# EAGLE library part LTC3417A (library PowerProducts)
Dual Synchronous 1.5A/1A 4MHz Step-Down DC/DC Regulator
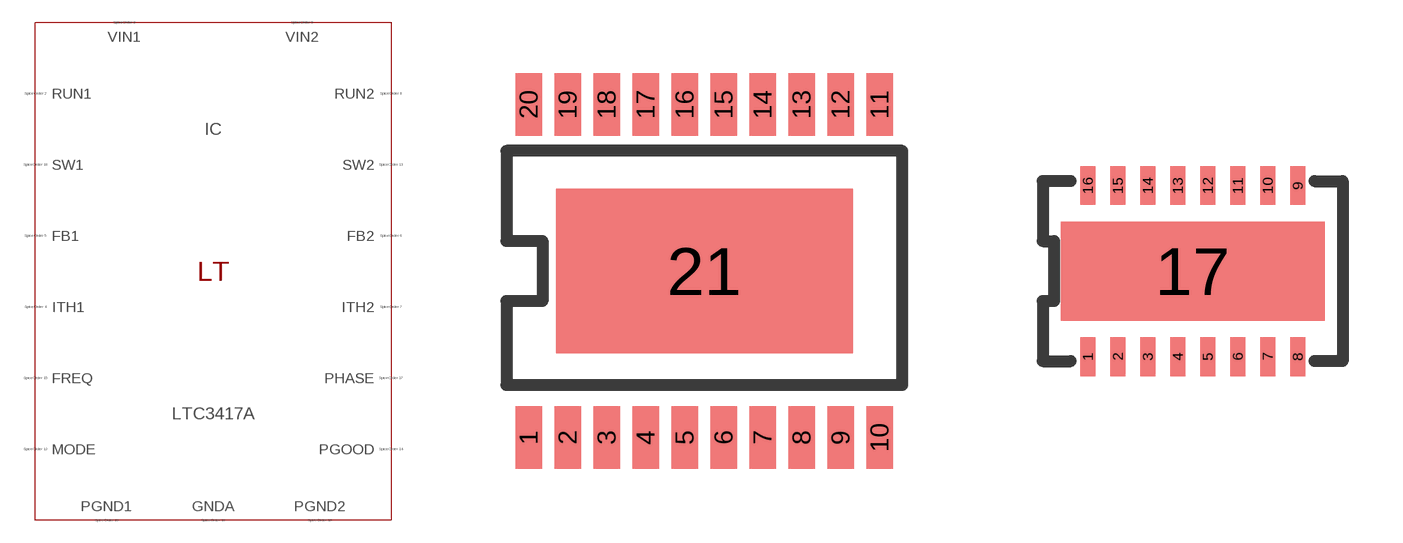
[diagram p179: symbol with the pads of TSSOP20CA(FE); footprints TSSOP20CA(FE), DFN16(DHC)]

Designator prefix IC

## LTC3417AFE (SPICEMODEL: LTC3417A.sub; SPICEPREFIX: X; VALUE2: LTC3417A)  [TSSOP20CA(FE)]
1  PGND2  pas
2  RUN1  pas
3  VIN1  pas
4  ITH1  pas
5  FB1  pas
6  FB2  pas
7  ITH2  pas
8  RUN2  pas
9  VIN2  pas
10  PGND2  pas
11  PGND2  pas
12  MODE  pas
13  SW2  pas
14  PGOOD  pas
15  FREQ  pas
16  GNDA  pas
17  PHASE  pas
18  SW1  pas
19  PGND1  pas
20  PGND2  pas
21  PGND2  pas

## LTC3417A (SPICEMODEL: LTC3417A.sub; SPICEPREFIX: X; VALUE2: LTC3417A)  [DFN16(DHC)]
1  RUN1  pas
2  VIN1  pas
3  ITH1  pas
4  FB1  pas
5  FB2  pas
6  ITH2  pas
7  RUN2  pas
8  VIN2  pas
9  MODE  pas
10  SW2  pas
11  PGOOD  pas
12  FREQ  pas
13  GNDA  pas
14  PHASE  pas
15  SW1  pas
16  PGND1  pas
17  PGND2  pas

## Footprint TSSOP20CA(FE) (pad centres in mm)
Package generated from: TSSOP20CA(FE).asc (!PADS-POWERPCB-V5.0-BASIC! DESIGN DATABASE ASCII FILE 1.0) with :import-pads-powerpcb-v5.ulp Version 1.0.1 at 04.10.2012 14:11:40
smd 0.66 x 1.575: 1 -4.388,-4.162; 2 -3.413,-4.162; 3 -2.438,-4.162; 4 -1.462,-4.162; 5 -0.487,-4.162; 6 0.487,-4.162; 7 1.462,-4.162; 8 2.438,-4.162; 9 3.413,-4.162; 10 4.388,-4.162; 11 4.388,4.162; 12 3.413,4.162; 13 2.438,4.162; 14 1.462,4.162; 15 0.487,4.162; 16 -0.487,4.162; 17 -1.462,4.162; 18 -2.438,4.162; 19 -3.413,4.162; 20 -4.388,4.162
smd 7.425 x 4.11: 21 0,0

## Footprint DFN16(DHC) (pad centres in mm)
Package generated from: DFN16(DHC).asc (!PADS-POWERPCB-V5.0-BASIC! DESIGN DATABASE ASCII FILE 1.0) with :import-pads-powerpcb-v5.ulp Version 1.0.1 at 04.10.2012 14:11:17
smd 0.375 x 0.975: 1 -2.625,-2.138; 2 -1.875,-2.138; 3 -1.125,-2.138; 4 -0.375,-2.138; 5 0.375,-2.138; 6 1.125,-2.138; 7 1.875,-2.138; 8 2.625,-2.138; 9 2.625,2.138; 10 1.875,2.138; 11 1.125,2.138; 12 0.375,2.138; 13 -0.375,2.138; 14 -1.125,2.138; 15 -1.875,2.138; 16 -2.625,2.138
smd 6.6 x 2.475: 17 0,0